# Altium schematic symbol library 74AXP1T45.Schlib: 1 symbol
Pins are listed as number, name and electrical type; pins without a type are passive.

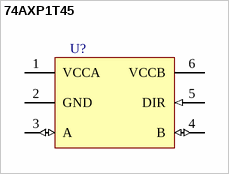
[diagram p0: symbol 74AXP1T45]

## 74AXP1T45
designator U?
Dual Inverter Gate
pins: 1 VCCA (power), 2 GND (power), 3 A (io), 4 B (io), 5 DIR (in), 6 VCCB (power)